# Altium schematic symbol library RC0603FR-073K3L.SchLib: 1 symbol
Pins are listed as number, name and electrical type; pins without a type are passive.

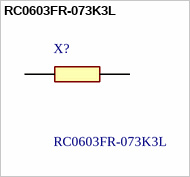
[diagram p0: symbol RC0603FR-073K3L]

## RC0603FR-073K3L
designator X?
YAGEO (PHYCOMP) - RC0603FR-073K3L - RES, THICK FILM, 3K3, 1%, 0.1W, 0603; Geometry.Height: 0.55mm; Manufacturer_Name: YAGEO; Manufacturer_Part_Number: RC0603FR-073K3L; Mouser Part Number: 603-RC0603FR-073K3L; Mouser Price/Stock: https://www.mouser.co.uk/ProductDetail/Yageo/RC0603FR-073K3L?qs=gt6vzsuosg2EoNiKbtAsfQ%3D%3D; Arrow Part Number: RC0603FR-073K3L; Arrow Price/Stock: https://www.arrow.com/en/products/rc0603fr-073k3l/yageo; Datasheet Link: http://www.yageo.com/documents/recent/PYu-RC0603_51_RoHS_L_v5.pdf
footprint RESC1608X55N
pins: 1, 2